# Altium schematic symbol library SCH - CONNECTORS - 16 PIN.SCHLIB: 3 symbols
Pins are listed as number, name and electrical type; pins without a type are passive.

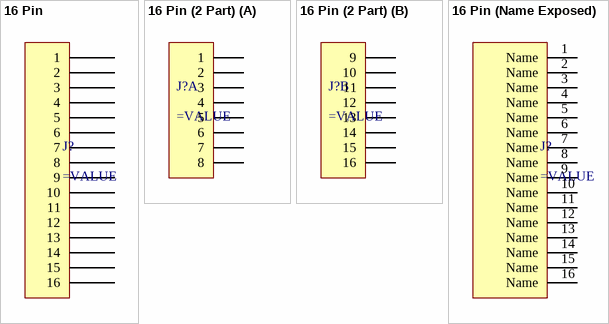
[diagram p0: symbols 16 Pin to 16 Pin (Name Exposed)]

## 16 Pin
designator J?
pins: 1, 2, 3, 4, 5, 6, 7, 8, 9, 10, 11, 12, 13, 14, 15, 16

## 16 Pin (2 Part)
designator J?
part A pins: 1, 2, 3, 4, 5, 6, 7, 8
part B pins: 9, 10, 11, 12, 13, 14, 15, 16

## 16 Pin (Name Exposed)
designator J?
pins: 1 Name, 2 Name, 3 Name, 4 Name, 5 Name, 6 Name, 7 Name, 8 Name, 9 Name, 10 Name, 11 Name, 12 Name, 13 Name, 14 Name, 15 Name, 16 Name